# Altium schematic symbol library AltiumDesigner.SchLib: 2 symbols
Pins are listed as number, name and electrical type; pins without a type are passive.

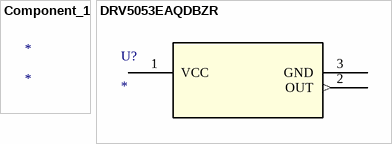
[diagram p0: symbols Component_1 to DRV5053EAQDBZR]

## Component_1
designator *

## DRV5053EAQDBZR
designator U?
Imported; Manufacturer_Part_Number: drv5053eaqdbzr; Vendor: Texas Instruments; C: Copyright (C) 2016 Accelerated Designs. All rights reserved; Copyright: Copyright (C) 2016 Accelerated Designs. All rights reserved; Value: Value; Type: Type; RefDes: RefDes
footprint DBZ3
pins: 1 VCC (power), 2 OUT (out), 3 GND (power)